# Altium schematic symbol library LTC4372HDD.Schlib: 1 symbol
Pins are listed as number, name and electrical type; pins without a type are passive.

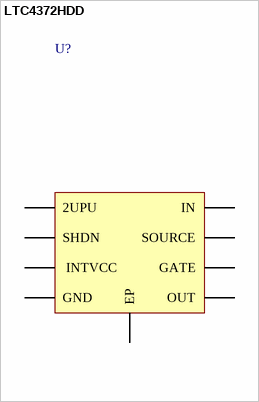
[diagram p0: symbol LTC4372HDD]

## LTC4372HDD
designator U?
Low Quiescent Current Ideal Diode Controller
pins: 1 OUT, 2 GATE, 3 SOURCE, 4 IN, 5  INTVCC, 6 GND, 7 2UPU, 8 SHDN, 9 EP